# EAGLE library part DRV8871 (library RoverWing-V1.5)
DRV8871 - 3.6A PWM Motor Driver
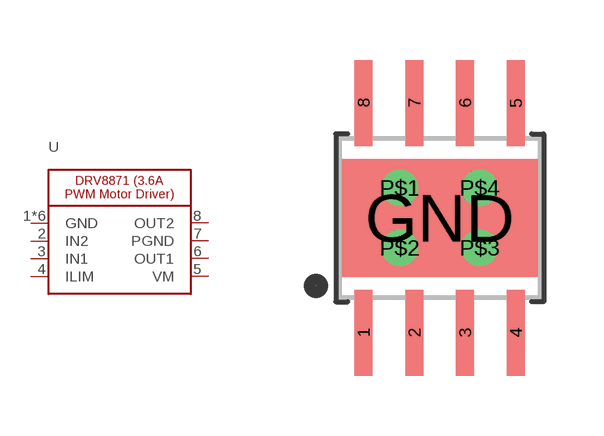
[diagram p3: symbol with the pads of HSOP8; footprint HSOP8]

Designator prefix U

## DRV8871 (MANUFACTURER: TEXAS INSTRUMENTS; PARTNO: DRV8871DDAR; SIZE: HSOP8)  [HSOP8]
1  GND  pwr
2  IN2  in
3  IN1  in
4  ILIM  in
5  VM  pwr
6  OUT1  out
7  PGND  pwr
8  OUT2  out
GND  GND  pwr
P$1  GND  pwr
P$2  GND  pwr
P$3  GND  pwr
P$4  GND  pwr

## Footprint HSOP8 (pad centres in mm)
smd 0.45 x 2.15: 1 -1.905,-2.875; 2 -0.635,-2.875; 3 0.635,-2.875; 4 1.905,-2.875; 5 1.905,2.875; 6 0.635,2.875; 7 -0.635,2.875; 8 -1.905,2.875
smd 4.9 x 2.95: GND 0,0
drill 0.4: P$1 -1,0.75; P$2 -1,-0.75; P$3 1,-0.75; P$4 1,0.75